# EAGLE library part LTC3414 (library OSSI)
LTC3414 4A, 4MHz Monolithic Synchonous Step-Down Regulator from Linear Technology
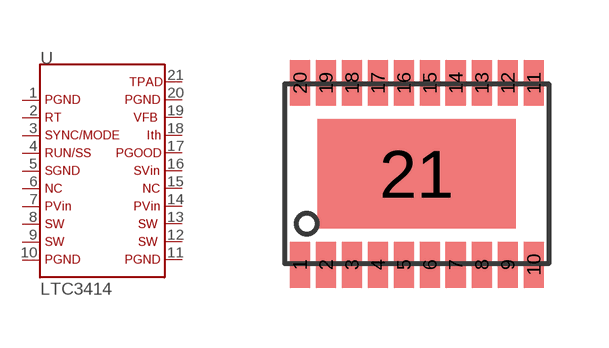
[diagram p37: symbol with the pads of TSSOP20-FE; footprint TSSOP20-FE]

Designator prefix U

## LTC3414  [TSSOP20-FE]
1  P$1
2  P$2
3  P$3
4  P$4
5  P$5
6  P$6
7  P$7
8  P$8
9  P$9
10  P$10
11  P$11
12  P$12
13  P$13
14  P$14
15  P$15
16  P$16
17  P$17
18  P$18
19  P$19
20  P$20
21  P$21

## Footprint TSSOP20-FE (pad centres in mm)
smd 0.5 x 1.15: 1 -2.925,-2.275; 2 -2.275,-2.275; 3 -1.625,-2.275; 4 -0.975,-2.275; 5 -0.325,-2.275; 6 0.325,-2.275; 7 0.975,-2.275; 8 1.625,-2.275; 9 2.275,-2.275; 10 2.925,-2.275; 11 2.925,2.275; 12 2.275,2.275; 13 1.625,2.275; 14 0.975,2.275; 15 0.325,2.275; 16 -0.325,2.275; 17 -0.975,2.275; 18 -1.625,2.275; 19 -2.275,2.275; 20 -2.925,2.275
smd 4.95 x 2.74: 21 0,0